# Altium integrated library TI Amplifiers and Linear Operational Amplifier General Purpose.IntLib: 1448 symbols (part 46 of 51)
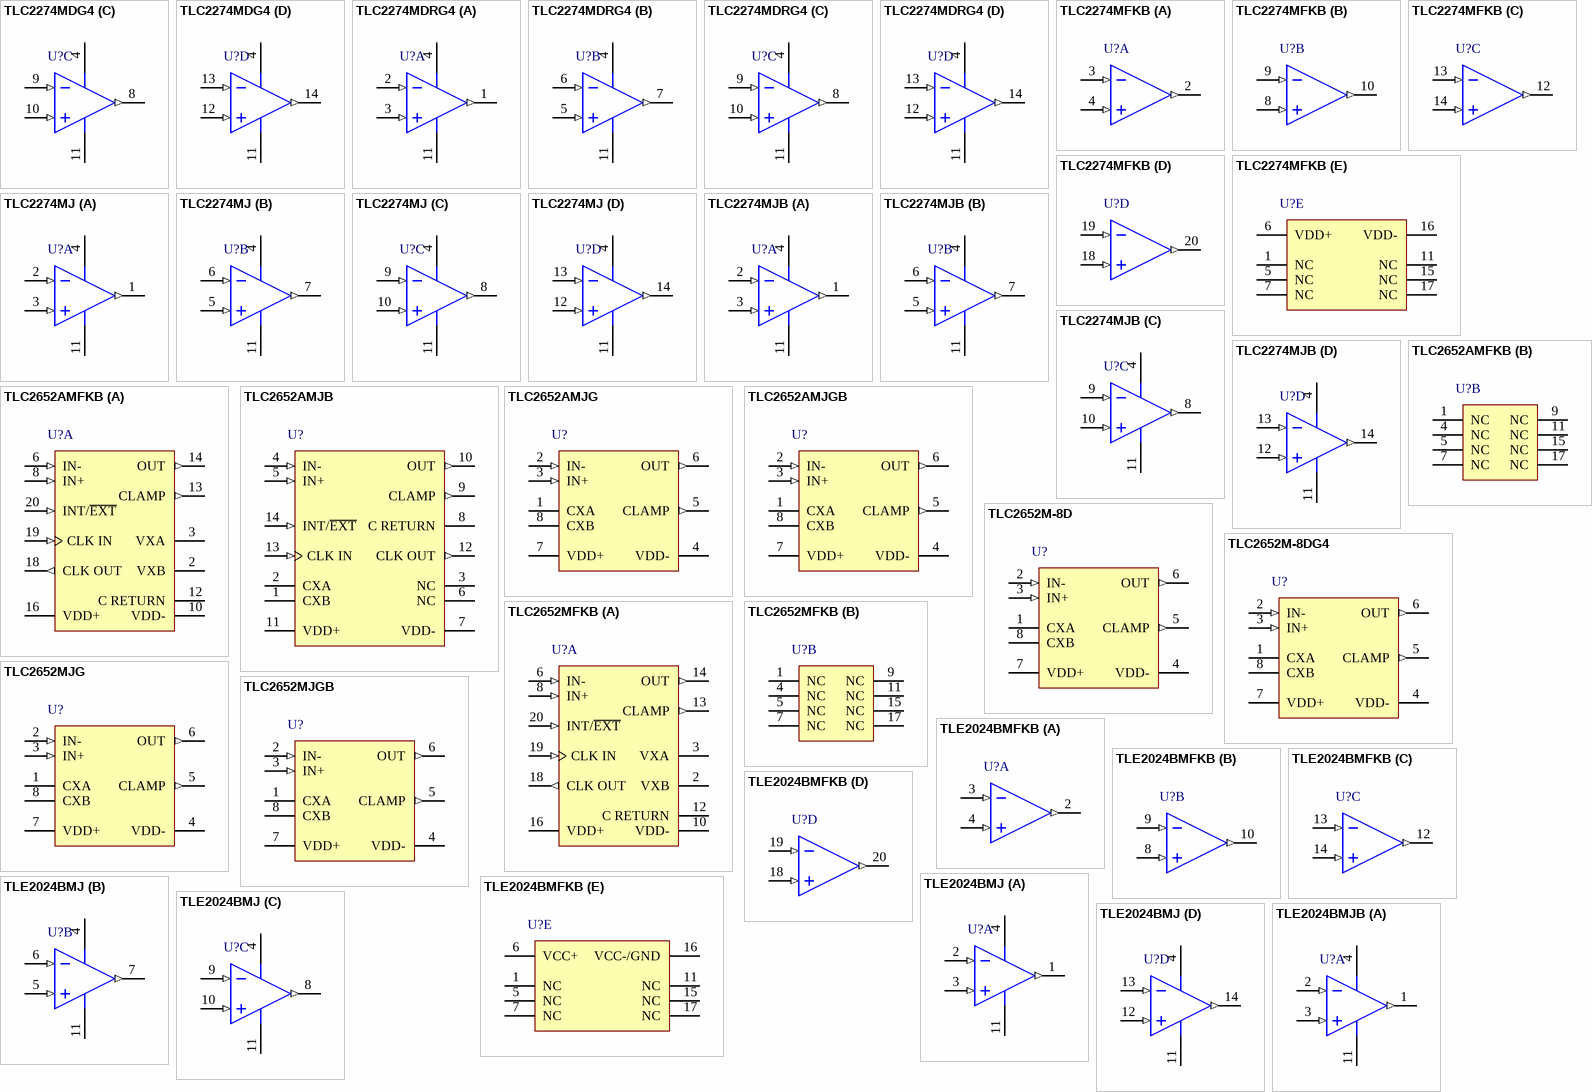
[diagram p136: symbols TLC2274MDG4 to TLE2024BMJB]

## TLC2274MJB
designator U?
Rail-To-Rail Low Noise Advanced LinCMOS(TM) Quad Operational Amplifier, 4.4 to 16 V, -55 to 125 degC, 14-pin DIP (J14); Manufacturer: Texas Instruments; PartNumber: TLC2274MJB; CMRR(Min)(dB): 70; IIB(Max)(pA): 800; Number of Channels: 4; Offset Drift(Typ)(uV/C): 2; Rating: Military; Slew Rate(Typ)(V/us): 3.6; Sub Family: General Purpose Amplifier; Total Supply Voltage(Max)(+5V is 5, +/-5V is 10): 16; Total Supply Voltage(Min)(+5V is 5, +/-5V is 10): 4.4; Vio (25C)(Max)(mV): 2.5; Vn at 1kHz(Typ)(nV/rtHz): 9; DatasheetVersion: SLOS190G; PackageVersion: 4040083/F, 03/2003; PackageReference: J14; PackageDescription: 14-Pin Ceramic, Glass In-Line, Row Spacing 7.62 mm, Pitch 2.54 mm; Mounting Technology: Through Hole; ComponentLink1Description: Manufacturer URL; ComponentLink1URL: http://www.ti.com/; ComponentLink2Description: Datasheet; ComponentLink2URL: http://www.ti.com/lit/ds/symlink/tlc2274m.pdf; ComponentLink3Description: Package Specification; ComponentLink3URL: http://www.ti.com/litv/pdf/mcer002d
footprint TI-J14 (DIP, 14-Leads, Body 19.94x6.92mm, Row Spacing 7.62 mm, Pitch 2.54mm)
pins on every part: 4 VDD+ (power), 11 VDD- (power)
part A pins: 1 OUT1 (out), 2 IN1- (in), 3 IN1+ (in)
part B pins: 5 IN2+ (in), 6 IN2- (in), 7 OUT2 (out)
part C pins: 8 OUT3 (out), 9 IN3- (in), 10 IN3+ (in)
part D pins: 12 IN4+ (in), 13 IN4- (in), 14 OUT4 (out)

## TLC2652AMFKB
designator U?
Precision Chopper-Stabilized Advanced LinCMOS(TM) Operational Amplifier, 3.8 to 16 V, -55 to 125 degC, 20-pin LCC (FK20); Manufacturer: Texas Instruments; PartNumber: TLC2652AMFKB; CMRR(Min)(dB): 120; IIB(Max)(pA): 60; Number of Channels: 1; Total Supply Voltage(Max)(+5V is 5, +/-5V is 10): 16; Total Supply Voltage(Min)(+5V is 5, +/-5V is 10): 3.8; Vio (25C)(Max)(mV): 0.003; Vn at 1kHz(Typ)(nV/rtHz): 23; DatasheetVersion: SLOS019E; PackageVersion: 4040140/D, 01/2011; PackageReference: FK20; PackageDescription: 20-Pin Ceramic, Metal Chip Carrier, Body 8.89 x 8.89 mm, Pitch 1.27 mm; Mounting Technology: Surface Mount; Code_JEDEC: MS-004; ComponentLink1Description: Manufacturer URL; ComponentLink1URL: http://www.ti.com/; ComponentLink2Description: Datasheet; ComponentLink2URL: http://www.ti.com/lit/ds/symlink/tlc2652am.pdf; ComponentLink3Description: Package Specification; ComponentLink3URL: http://www.ti.com/litv/pdf/mlcc006d
footprint TI-FK20_N (Leadless Chip Carrier, 20-Leads, Body 8.9x8.9mm, Pitch 1.27mm, IPC Medium Density)
footprint TI-FK20_L (Leadless Chip Carrier, 20-Leads, Body 8.9x8.9mm, Pitch 1.27mm, IPC High Density)
footprint TI-FK20_M (Leadless Chip Carrier, 20-Leads, Body 8.9x8.9mm, Pitch 1.27mm, IPC Low Density)
part A pins: 2 VXB (power), 3 VXA (power), 6 IN- (in), 8 IN+ (in), 10 VDD- (power), 12 C RETURN (power), 13 CLAMP (out), 14 OUT (out), 16 VDD+ (power), 18 CLK OUT (out), 19 CLK IN (in), 20 INT/~{EXT} (in)
part B pins: 1 NC, 4 NC, 5 NC, 7 NC, 9 NC, 11 NC, 15 NC, 17 NC

## TLC2652AMJB
designator U?
Precision Chopper-Stabilized Advanced LinCMOS(TM) Operational Amplifier, 3.8 to 16 V, -55 to 125 degC, 14-pin DIP (J14); Manufacturer: Texas Instruments; PartNumber: TLC2652AMJB; CMRR(Min)(dB): 120; IIB(Max)(pA): 60; Number of Channels: 1; Total Supply Voltage(Max)(+5V is 5, +/-5V is 10): 16; Total Supply Voltage(Min)(+5V is 5, +/-5V is 10): 3.8; Vio (25C)(Max)(mV): 0.003; Vn at 1kHz(Typ)(nV/rtHz): 23; DatasheetVersion: SLOS019E; PackageVersion: 4040083/F, 03/2003; PackageReference: J14; PackageDescription: 14-Pin Ceramic, Glass In-Line, Row Spacing 7.62 mm, Pitch 2.54 mm; Mounting Technology: Through Hole; ComponentLink1Description: Manufacturer URL; ComponentLink1URL: http://www.ti.com/; ComponentLink2Description: Datasheet; ComponentLink2URL: http://www.ti.com/lit/ds/symlink/tlc2652am.pdf; ComponentLink3Description: Package Specification; ComponentLink3URL: http://www.ti.com/litv/pdf/mcer002d
footprint TI-J14 (DIP, 14-Leads, Body 19.94x6.92mm, Row Spacing 7.62 mm, Pitch 2.54mm)
pins: 1 CXB, 2 CXA, 3 NC, 4 IN- (in), 5 IN+ (in), 6 NC, 7 VDD- (power), 8 C RETURN (power), 9 CLAMP (out), 10 OUT (out), 11 VDD+ (power), 12 CLK OUT (out), 13 CLK IN (in), 14 INT/~{EXT} (in)

## TLC2652AMJG
designator U?
Precision Chopper-Stabilized Advanced LinCMOS(TM) Operational Amplifier, 3.8 to 16 V, -55 to 125 degC, 8-pin DIP (JG8); Manufacturer: Texas Instruments; PartNumber: TLC2652AMJG; CMRR(Min)(dB): 120; IIB(Max)(pA): 60; Number of Channels: 1; Total Supply Voltage(Max)(+5V is 5, +/-5V is 10): 16; Total Supply Voltage(Min)(+5V is 5, +/-5V is 10): 3.8; Vio (25C)(Max)(mV): 0.003; Vn at 1kHz(Typ)(nV/rtHz): 23; DatasheetVersion: SLOS019E; PackageVersion: 4040107/C, 08/1996; PackageReference: JG8; PackageDescription: 8-Pin Ceramic, Glass In-Line, Body 9.58 x 6.665 mm, Pitch 2.54 mm; Mounting Technology: Through Hole; ComponentLink1Description: Manufacturer URL; ComponentLink1URL: http://www.ti.com/; ComponentLink2Description: Datasheet; ComponentLink2URL: http://www.ti.com/lit/ds/symlink/tlc2652am.pdf; ComponentLink3Description: Package Specification; ComponentLink3URL: http://www.ti.com/litv/pdf/mcer001a
footprint TI-JG8 (DIP, 8-Leads, Body 10.15x7.1mm, Pitch 2.54mm)
pins: 1 CXA, 2 IN- (in), 3 IN+ (in), 4 VDD- (power), 5 CLAMP (out), 6 OUT (out), 7 VDD+ (power), 8 CXB

## TLC2652AMJGB
designator U?
Precision Chopper-Stabilized Advanced LinCMOS(TM) Operational Amplifier, 3.8 to 16 V, -55 to 125 degC, 8-pin DIP (JG8); Manufacturer: Texas Instruments; PartNumber: TLC2652AMJGB; CMRR(Min)(dB): 120; IIB(Max)(pA): 60; Number of Channels: 1; Total Supply Voltage(Max)(+5V is 5, +/-5V is 10): 16; Total Supply Voltage(Min)(+5V is 5, +/-5V is 10): 3.8; Vio (25C)(Max)(mV): 0.003; Vn at 1kHz(Typ)(nV/rtHz): 23; DatasheetVersion: SLOS019E; PackageVersion: 4040107/C, 08/1996; PackageReference: JG8; PackageDescription: 8-Pin Ceramic, Glass In-Line, Body 9.58 x 6.665 mm, Pitch 2.54 mm; Mounting Technology: Through Hole; ComponentLink1Description: Manufacturer URL; ComponentLink1URL: http://www.ti.com/; ComponentLink2Description: Datasheet; ComponentLink2URL: http://www.ti.com/lit/ds/symlink/tlc2652am.pdf; ComponentLink3Description: Package Specification; ComponentLink3URL: http://www.ti.com/litv/pdf/mcer001a
footprint TI-JG8 (DIP, 8-Leads, Body 10.15x7.1mm, Pitch 2.54mm)
pins: 1 CXA, 2 IN- (in), 3 IN+ (in), 4 VDD- (power), 5 CLAMP (out), 6 OUT (out), 7 VDD+ (power), 8 CXB

## TLC2652M-8D
designator U?
Precision Chopper-Stabilized Advanced LinCMOS(TM) Operational Amplifier, 3.8 to 16 V, -55 to 125 degC, 8-pin SOIC (D8), Green (RoHS & no Sb/Br); Manufacturer: Texas Instruments; PartNumber: TLC2652M-8D; CMRR(Min)(dB): 120; IIB(Max)(pA): 60; Number of Channels: 1; Total Supply Voltage(Max)(+5V is 5, +/-5V is 10): 16; Total Supply Voltage(Min)(+5V is 5, +/-5V is 10): 3.8; Vio (25C)(Max)(mV): 0.0035; Vn at 1kHz(Typ)(nV/rtHz): 23; DatasheetVersion: SLOS019E; PackageVersion: 4040047-3/M, 06/2011; PackageReference: D8; PackageDescription: 8-Pin Plastic Small Outline, Body 4.9 x 3.9 mm, Pitch 1.27 mm; Supplier 1: Digi-Key; Supplier Part Number 1: 296-7325-5-ND; Supplier 2: Newark; Supplier Part Number 2: 76C7048; Supplier 3: Mouser; Supplier Part Number 3: 595-TLC2652M-8D; Eco-Plan: Green (RoHS & no Sb/Br); Mounting Technology: Surface Mount; Code_JEDEC: MS-012; ComponentLink1Description: Manufacturer URL; ComponentLink1URL: http://www.ti.com/; ComponentLink2Description: Datasheet; ComponentLink2URL: http://www.ti.com/lit/ds/symlink/tlc2652m.pdf; ComponentLink3Description: Package Specification; ComponentLink3URL: http://www.ti.com/litv/pdf/msoi002j
footprint TI-D8_N (SOIC, 8-Leads, Body 4.9x3.9mm, Pitch 1.27mm, IPC Medium Density)
footprint TI-D8_L (SOIC, 8-Leads, Body 4.9x3.9mm, Pitch 1.27mm, IPC High Density)
footprint TI-D8_M (SOIC, 8-Leads, Body 4.9x3.9mm, Pitch 1.27mm, IPC Low Density)
pins: 1 CXA, 2 IN- (in), 3 IN+ (in), 4 VDD- (power), 5 CLAMP (out), 6 OUT (out), 7 VDD+ (power), 8 CXB

## TLC2652M-8DG4
designator U?
Precision Chopper-Stabilized Advanced LinCMOS(TM) Operational Amplifier, 3.8 to 16 V, -55 to 125 degC, 8-pin SOIC (D8), Green (RoHS & no Sb/Br); Manufacturer: Texas Instruments; PartNumber: TLC2652M-8DG4; CMRR(Min)(dB): 120; IIB(Max)(pA): 60; Number of Channels: 1; Total Supply Voltage(Max)(+5V is 5, +/-5V is 10): 16; Total Supply Voltage(Min)(+5V is 5, +/-5V is 10): 3.8; Vio (25C)(Max)(mV): 0.0035; Vn at 1kHz(Typ)(nV/rtHz): 23; DatasheetVersion: SLOS019E; PackageVersion: 4040047-3/M, 06/2011; PackageReference: D8; PackageDescription: 8-Pin Plastic Small Outline, Body 4.9 x 3.9 mm, Pitch 1.27 mm; Supplier 1: Digi-Key; Supplier Part Number 1: TLC2652M-8DG4-ND; Supplier 2: Mouser; Supplier Part Number 2: 595-TLC2652M-8DG4; Eco-Plan: Green (RoHS & no Sb/Br); Mounting Technology: Surface Mount; Code_JEDEC: MS-012; ComponentLink1Description: Manufacturer URL; ComponentLink1URL: http://www.ti.com/; ComponentLink2Description: Datasheet; ComponentLink2URL: http://www.ti.com/lit/ds/symlink/tlc2652m.pdf; ComponentLink3Description: Package Specification; ComponentLink3URL: http://www.ti.com/litv/pdf/msoi002j
footprint TI-D8_N (SOIC, 8-Leads, Body 4.9x3.9mm, Pitch 1.27mm, IPC Medium Density)
footprint TI-D8_L (SOIC, 8-Leads, Body 4.9x3.9mm, Pitch 1.27mm, IPC High Density)
footprint TI-D8_M (SOIC, 8-Leads, Body 4.9x3.9mm, Pitch 1.27mm, IPC Low Density)
pins: 1 CXA, 2 IN- (in), 3 IN+ (in), 4 VDD- (power), 5 CLAMP (out), 6 OUT (out), 7 VDD+ (power), 8 CXB

## TLC2652MFKB
designator U?
Precision Chopper-Stabilized Advanced LinCMOS(TM) Operational Amplifier, 3.8 to 16 V, -55 to 125 degC, 20-pin LCC (FK20); Manufacturer: Texas Instruments; PartNumber: TLC2652MFKB; CMRR(Min)(dB): 120; IIB(Max)(pA): 60; Number of Channels: 1; Total Supply Voltage(Max)(+5V is 5, +/-5V is 10): 16; Total Supply Voltage(Min)(+5V is 5, +/-5V is 10): 3.8; Vio (25C)(Max)(mV): 0.0035; Vn at 1kHz(Typ)(nV/rtHz): 23; DatasheetVersion: SLOS019E; PackageVersion: 4040140/D, 01/2011; PackageReference: FK20; PackageDescription: 20-Pin Ceramic, Metal Chip Carrier, Body 8.89 x 8.89 mm, Pitch 1.27 mm; Mounting Technology: Surface Mount; Code_JEDEC: MS-004; ComponentLink1Description: Manufacturer URL; ComponentLink1URL: http://www.ti.com/; ComponentLink2Description: Datasheet; ComponentLink2URL: http://www.ti.com/lit/ds/symlink/tlc2652m.pdf; ComponentLink3Description: Package Specification; ComponentLink3URL: http://www.ti.com/litv/pdf/mlcc006d
footprint TI-FK20_N (Leadless Chip Carrier, 20-Leads, Body 8.9x8.9mm, Pitch 1.27mm, IPC Medium Density)
footprint TI-FK20_L (Leadless Chip Carrier, 20-Leads, Body 8.9x8.9mm, Pitch 1.27mm, IPC High Density)
footprint TI-FK20_M (Leadless Chip Carrier, 20-Leads, Body 8.9x8.9mm, Pitch 1.27mm, IPC Low Density)
part A pins: 2 VXB, 3 VXA, 6 IN- (in), 8 IN+ (in), 10 VDD- (power), 12 C RETURN (power), 13 CLAMP (out), 14 OUT (out), 16 VDD+ (power), 18 CLK OUT (out), 19 CLK IN (in), 20 INT/~{EXT} (in)
part B pins: 1 NC, 4 NC, 5 NC, 7 NC, 9 NC, 11 NC, 15 NC, 17 NC

## TLC2652MJG
designator U?
Precision Chopper-Stabilized Advanced LinCMOS(TM) Operational Amplifier, 3.8 to 16 V, -55 to 125 degC, 8-pin DIP (JG8); Manufacturer: Texas Instruments; PartNumber: TLC2652MJG; CMRR(Min)(dB): 120; IIB(Max)(pA): 60; Number of Channels: 1; Total Supply Voltage(Max)(+5V is 5, +/-5V is 10): 16; Total Supply Voltage(Min)(+5V is 5, +/-5V is 10): 3.8; Vio (25C)(Max)(mV): 0.0035; Vn at 1kHz(Typ)(nV/rtHz): 23; DatasheetVersion: SLOS019E; PackageVersion: 4040107/C, 08/1996; PackageReference: JG8; PackageDescription: 8-Pin Ceramic, Glass In-Line, Body 9.58 x 6.665 mm, Pitch 2.54 mm; Mounting Technology: Through Hole; ComponentLink1Description: Manufacturer URL; ComponentLink1URL: http://www.ti.com/; ComponentLink2Description: Datasheet; ComponentLink2URL: http://www.ti.com/lit/ds/symlink/tlc2652m.pdf; ComponentLink3Description: Package Specification; ComponentLink3URL: http://www.ti.com/litv/pdf/mcer001a
footprint TI-JG8 (DIP, 8-Leads, Body 10.15x7.1mm, Pitch 2.54mm)
pins: 1 CXA, 2 IN- (in), 3 IN+ (in), 4 VDD- (power), 5 CLAMP (out), 6 OUT (out), 7 VDD+ (power), 8 CXB

## TLC2652MJGB
designator U?
Precision Chopper-Stabilized Advanced LinCMOS(TM) Operational Amplifier, 3.8 to 16 V, -55 to 125 degC, 8-pin DIP (JG8); Manufacturer: Texas Instruments; PartNumber: TLC2652MJGB; CMRR(Min)(dB): 120; IIB(Max)(pA): 60; Number of Channels: 1; Total Supply Voltage(Max)(+5V is 5, +/-5V is 10): 16; Total Supply Voltage(Min)(+5V is 5, +/-5V is 10): 3.8; Vio (25C)(Max)(mV): 0.0035; Vn at 1kHz(Typ)(nV/rtHz): 23; DatasheetVersion: SLOS019E; PackageVersion: 4040107/C, 08/1996; PackageReference: JG8; PackageDescription: 8-Pin Ceramic, Glass In-Line, Body 9.58 x 6.665 mm, Pitch 2.54 mm; Mounting Technology: Through Hole; ComponentLink1Description: Manufacturer URL; ComponentLink1URL: http://www.ti.com/; ComponentLink2Description: Datasheet; ComponentLink2URL: http://www.ti.com/lit/ds/symlink/tlc2652m.pdf; ComponentLink3Description: Package Specification; ComponentLink3URL: http://www.ti.com/litv/pdf/mcer001a
footprint TI-JG8 (DIP, 8-Leads, Body 10.15x7.1mm, Pitch 2.54mm)
pins: 1 CXA, 2 IN- (in), 3 IN+ (in), 4 VDD- (power), 5 CLAMP (out), 6 OUT (out), 7 VDD+ (power), 8 CXB

## TLE2024BMFKB
designator U?
High-Speed, Low-Power, Precision Quad Operational Amplifier, -55 to 125 degC, 20-pin LCC (FK20); Manufacturer: Texas Instruments; PartNumber: TLE2024BMFKB; CMRR(Min)(dB): 85; IIB(Max)(pA): 70000; Slew Rate(Typ)(V/us): 0.5; Sub Family: General Purpose Amplifier; Vio (25C)(Max)(mV): 0.6; Vn at 1kHz(Typ)(nV/rtHz): 17; DatasheetVersion: SLOS191D; PackageVersion: 4040140/D, 01/2011; PackageReference: FK20; PackageDescription: 20-Pin Ceramic, Metal Chip Carrier, Body 8.89 x 8.89 mm, Pitch 1.27 mm; Mounting Technology: Surface Mount; Code_JEDEC: MS-004; ComponentLink1Description: Manufacturer URL; ComponentLink1URL: http://www.ti.com/; ComponentLink2Description: Datasheet; ComponentLink2URL: http://www.ti.com/lit/ds/symlink/tle2024bm.pdf; ComponentLink3Description: Package Specification; ComponentLink3URL: http://www.ti.com/litv/pdf/mlcc006d
footprint TI-FK20_N (Leadless Chip Carrier, 20-Leads, Body 8.9x8.9mm, Pitch 1.27mm, IPC Medium Density)
footprint TI-FK20_L (Leadless Chip Carrier, 20-Leads, Body 8.9x8.9mm, Pitch 1.27mm, IPC High Density)
footprint TI-FK20_M (Leadless Chip Carrier, 20-Leads, Body 8.9x8.9mm, Pitch 1.27mm, IPC Low Density)
part A pins: 2 OUT1 (out), 3 IN1- (in), 4 IN1+ (in)
part B pins: 8 IN2+ (in), 9 IN2- (in), 10 OUT2 (out)
part C pins: 12 OUT3 (out), 13 IN3- (in), 14 IN3+ (in)
part D pins: 18 IN4+ (in), 19 IN4- (in), 20 OUT4 (out)
part E pins: 1 NC, 5 NC, 6 VCC+ (power), 7 NC, 11 NC, 15 NC, 16 VCC-/GND (power), 17 NC

## TLE2024BMJ
designator U?
High-Speed, Low-Power, Precision Quad Operational Amplifier, -55 to 125 degC, 14-pin DIP (J14); Manufacturer: Texas Instruments; PartNumber: TLE2024BMJ; CMRR(Min)(dB): 85; IIB(Max)(pA): 70000; Slew Rate(Typ)(V/us): 0.5; Sub Family: General Purpose Amplifier; Vio (25C)(Max)(mV): 0.6; Vn at 1kHz(Typ)(nV/rtHz): 17; DatasheetVersion: SLOS191D; PackageVersion: 4040083/F, 03/2003; PackageReference: J14; PackageDescription: 14-Pin Ceramic, Glass In-Line, Row Spacing 7.62 mm, Pitch 2.54 mm; Mounting Technology: Through Hole; ComponentLink1Description: Manufacturer URL; ComponentLink1URL: http://www.ti.com/; ComponentLink2Description: Datasheet; ComponentLink2URL: http://www.ti.com/lit/ds/symlink/tle2024bm.pdf; ComponentLink3Description: Package Specification; ComponentLink3URL: http://www.ti.com/litv/pdf/mcer002d
footprint TI-J14 (DIP, 14-Leads, Body 19.94x6.92mm, Row Spacing 7.62 mm, Pitch 2.54mm)
pins on every part: 4 VCC+ (power), 11 VCC-/GND (power)
part A pins: 1 OUT1 (out), 2 IN1- (in), 3 IN1+ (in)
part B pins: 5 IN2+ (in), 6 IN2- (in), 7 OUT2 (out)
part C pins: 8 OUT3 (out), 9 IN3- (in), 10 IN3+ (in)
part D pins: 12 IN4+ (in), 13 IN4- (in), 14 OUT4 (out)

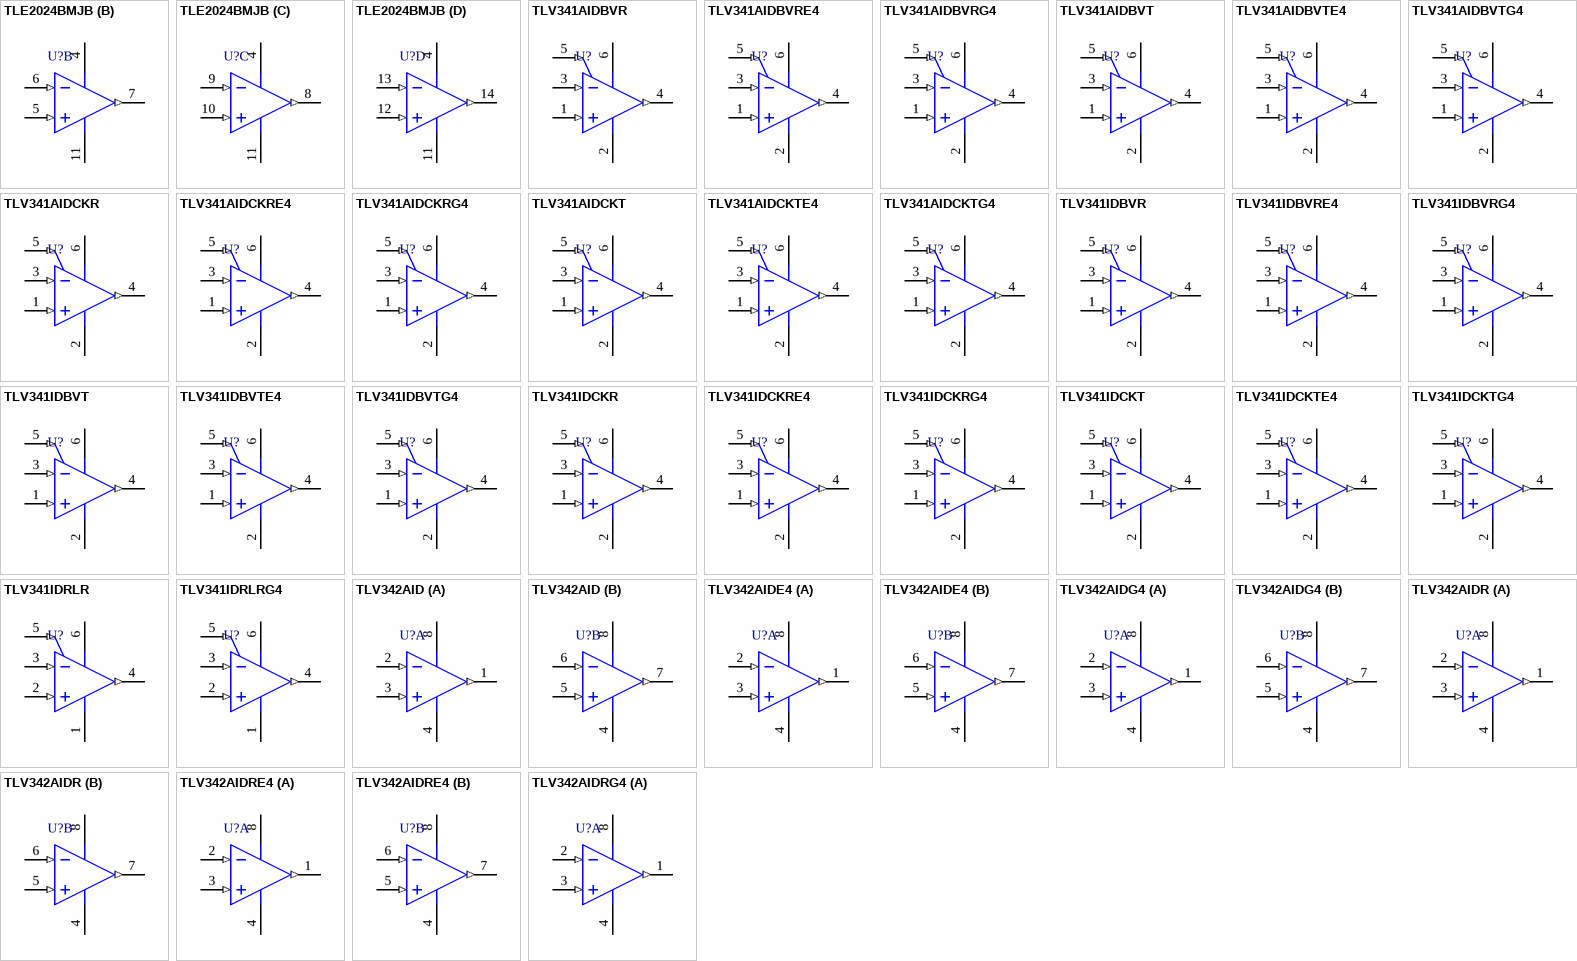
[diagram p82: symbols TLE2024BMJB to TLV342AIDRG4]

## TLE2024BMJB
designator U?
High-Speed, Low-Power, Precision Quad Operational Amplifier, -55 to 125 degC, 14-pin DIP (J14); Manufacturer: Texas Instruments; PartNumber: TLE2024BMJB; CMRR(Min)(dB): 85; IIB(Max)(pA): 70000; Slew Rate(Typ)(V/us): 0.5; Sub Family: General Purpose Amplifier; Vio (25C)(Max)(mV): 0.6; Vn at 1kHz(Typ)(nV/rtHz): 17; DatasheetVersion: SLOS191D; PackageVersion: 4040083/F, 03/2003; PackageReference: J14; PackageDescription: 14-Pin Ceramic, Glass In-Line, Row Spacing 7.62 mm, Pitch 2.54 mm; Mounting Technology: Through Hole; ComponentLink1Description: Manufacturer URL; ComponentLink1URL: http://www.ti.com/; ComponentLink2Description: Datasheet; ComponentLink2URL: http://www.ti.com/lit/ds/symlink/tle2024bm.pdf; ComponentLink3Description: Package Specification; ComponentLink3URL: http://www.ti.com/litv/pdf/mcer002d
footprint TI-J14 (DIP, 14-Leads, Body 19.94x6.92mm, Row Spacing 7.62 mm, Pitch 2.54mm)
pins on every part: 4 VCC+ (power), 11 VCC-/GND (power)
part A pins: 1 OUT1 (out), 2 IN1- (in), 3 IN1+ (in)
part B pins: 5 IN2+ (in), 6 IN2- (in), 7 OUT2 (out)
part C pins: 8 OUT3 (out), 9 IN3- (in), 10 IN3+ (in)
part D pins: 12 IN4+ (in), 13 IN4- (in), 14 OUT4 (out)

## TLV341AIDBVR
designator U?
Low-Voltage, Rail-To-Rail Output CMOS Operational Amplifier with Shutdown, 1.5 to 5.5 V, -40 to 125 degC, 6-pin SOT23 (DBV6), Green (RoHS & no Sb/Br); Manufacturer: Texas Instruments; PartNumber: TLV341AIDBVR; CMRR(Min)(dB): 50; GBW(Typ)(MHz): 2.2; IIB(Max)(pA): 3000; Iq per channel(Max)(mA): 0.15; Number of Channels: 1; Offset Drift(Typ)(uV/C): 1.9; Rating: Catalog; Slew Rate(Typ)(V/us): 0.9; Sub Family: General Purpose Amplifier, Low Power Amp (<=500uA), Low Supply Voltage Amplifier (<=2.7V); Total Supply Voltage(Max)(+5V is 5, +/-5V is 10): 5.5; Total Supply Voltage(Min)(+5V is 5, +/-5V is 10): 1.5; Vio (25C)(Max)(mV): 1.25; Vn at 1kHz(Typ)(nV/rtHz): 33; DatasheetVersion: SLVS568C; PackageVersion: 4073253-5/K, 03/2006; PackageReference: DBV6; PackageDescription: 6-Pin Plastic Small Outline, Body 1.6 x 2.9 mm, Pitch 0.95 mm; Supplier 1: Digi-Key; Supplier Part Number 1: 296-17680-2-ND; Supplier 2: Digi-Key; Supplier Part Number 2: 296-17680-1-ND; Supplier 3: Digi-Key; Supplier Part Number 3: 296-17680-6-ND; Supplier 4: Newark; Supplier Part Number 4: 73J8352; Supplier 5: Mouser; Supplier Part Number 5: 595-TLV341AIDBVR; Eco-Plan: Green (RoHS & no Sb/Br); Mounting Technology: Surface Mount; Code_JEDEC: MO-178; ComponentLink1Description: Manufacturer URL; ComponentLink1URL: http://www.ti.com/; ComponentLink2Description: Datasheet; ComponentLink2URL: http://www.ti.com/lit/ds/symlink/tlv341a.pdf; ComponentLink3Description: Package Specification; ComponentLink3URL: http://www.ti.com/litv/pdf/mpds026h
footprint TI-DBV6_N (SOT23, 6-Leads, Body 2.90x1.60mm, Pitch 0.95mm, IPC Medium Density)
footprint TI-DBV6_L (SOT23, 6-Leads, Body 2.90x1.60mm, Pitch 0.95mm, IPC High Density)
footprint TI-DBV6_M (SOT23, 6-Leads, Body 2.90x1.60mm, Pitch 0.95mm, IPC Low Density)
pins: 1 IN+ (in), 2 GND (power), 3 IN- (in), 4 OUT (out), 5 ~{SHDN} (in), 6 V+ (power)

## TLV341AIDBVRE4
designator U?
Low-Voltage, Rail-To-Rail Output CMOS Operational Amplifier with Shutdown, 1.5 to 5.5 V, -40 to 125 degC, 6-pin SOT23 (DBV6), Green (RoHS & no Sb/Br); Manufacturer: Texas Instruments; PartNumber: TLV341AIDBVRE4; CMRR(Min)(dB): 50; GBW(Typ)(MHz): 2.2; IIB(Max)(pA): 3000; Iq per channel(Max)(mA): 0.15; Number of Channels: 1; Offset Drift(Typ)(uV/C): 1.9; Rating: Catalog; Slew Rate(Typ)(V/us): 0.9; Sub Family: General Purpose Amplifier, Low Power Amp (<=500uA), Low Supply Voltage Amplifier (<=2.7V); Total Supply Voltage(Max)(+5V is 5, +/-5V is 10): 5.5; Total Supply Voltage(Min)(+5V is 5, +/-5V is 10): 1.5; Vio (25C)(Max)(mV): 1.25; Vn at 1kHz(Typ)(nV/rtHz): 33; DatasheetVersion: SLVS568C; PackageVersion: 4073253-5/K, 03/2006; PackageReference: DBV6; PackageDescription: 6-Pin Plastic Small Outline, Body 1.6 x 2.9 mm, Pitch 0.95 mm; Supplier 1: Digi-Key; Supplier Part Number 1: TLV341AIDBVRE4-ND; Supplier 2: Mouser; Supplier Part Number 2: 595-TLV341AIDBVRE4; Eco-Plan: Green (RoHS & no Sb/Br); Mounting Technology: Surface Mount; Code_JEDEC: MO-178; ComponentLink1Description: Manufacturer URL; ComponentLink1URL: http://www.ti.com/; ComponentLink2Description: Datasheet; ComponentLink2URL: http://www.ti.com/lit/ds/symlink/tlv341a.pdf; ComponentLink3Description: Package Specification; ComponentLink3URL: http://www.ti.com/litv/pdf/mpds026h
footprint TI-DBV6_N (SOT23, 6-Leads, Body 2.90x1.60mm, Pitch 0.95mm, IPC Medium Density)
footprint TI-DBV6_L (SOT23, 6-Leads, Body 2.90x1.60mm, Pitch 0.95mm, IPC High Density)
footprint TI-DBV6_M (SOT23, 6-Leads, Body 2.90x1.60mm, Pitch 0.95mm, IPC Low Density)
pins: 1 IN+ (in), 2 GND (power), 3 IN- (in), 4 OUT (out), 5 ~{SHDN} (in), 6 V+ (power)

## TLV341AIDBVRG4
designator U?
Low-Voltage, Rail-To-Rail Output CMOS Operational Amplifier with Shutdown, 1.5 to 5.5 V, -40 to 125 degC, 6-pin SOT23 (DBV6), Green (RoHS & no Sb/Br); Manufacturer: Texas Instruments; PartNumber: TLV341AIDBVRG4; CMRR(Min)(dB): 50; GBW(Typ)(MHz): 2.2; IIB(Max)(pA): 3000; Iq per channel(Max)(mA): 0.15; Number of Channels: 1; Offset Drift(Typ)(uV/C): 1.9; Rating: Catalog; Slew Rate(Typ)(V/us): 0.9; Sub Family: General Purpose Amplifier, Low Power Amp (<=500uA), Low Supply Voltage Amplifier (<=2.7V); Total Supply Voltage(Max)(+5V is 5, +/-5V is 10): 5.5; Total Supply Voltage(Min)(+5V is 5, +/-5V is 10): 1.5; Vio (25C)(Max)(mV): 1.25; Vn at 1kHz(Typ)(nV/rtHz): 33; DatasheetVersion: SLVS568C; PackageVersion: 4073253-5/K, 03/2006; PackageReference: DBV6; PackageDescription: 6-Pin Plastic Small Outline, Body 1.6 x 2.9 mm, Pitch 0.95 mm; Supplier 1: Digi-Key; Supplier Part Number 1: TLV341AIDBVRG4-ND; Supplier 2: Mouser; Supplier Part Number 2: 595-TLV341AIDBVRG4; Eco-Plan: Green (RoHS & no Sb/Br); Mounting Technology: Surface Mount; Code_JEDEC: MO-178; ComponentLink1Description: Manufacturer URL; ComponentLink1URL: http://www.ti.com/; ComponentLink2Description: Datasheet; ComponentLink2URL: http://www.ti.com/lit/ds/symlink/tlv341a.pdf; ComponentLink3Description: Package Specification; ComponentLink3URL: http://www.ti.com/litv/pdf/mpds026h
footprint TI-DBV6_N (SOT23, 6-Leads, Body 2.90x1.60mm, Pitch 0.95mm, IPC Medium Density)
footprint TI-DBV6_L (SOT23, 6-Leads, Body 2.90x1.60mm, Pitch 0.95mm, IPC High Density)
footprint TI-DBV6_M (SOT23, 6-Leads, Body 2.90x1.60mm, Pitch 0.95mm, IPC Low Density)
pins: 1 IN+ (in), 2 GND (power), 3 IN- (in), 4 OUT (out), 5 ~{SHDN} (in), 6 V+ (power)

## TLV341AIDBVT
designator U?
Low-Voltage, Rail-To-Rail Output CMOS Operational Amplifier with Shutdown, 1.5 to 5.5 V, -40 to 125 degC, 6-pin SOT23 (DBV6), Green (RoHS & no Sb/Br); Manufacturer: Texas Instruments; PartNumber: TLV341AIDBVT; CMRR(Min)(dB): 50; GBW(Typ)(MHz): 2.2; IIB(Max)(pA): 3000; Iq per channel(Max)(mA): 0.15; Number of Channels: 1; Offset Drift(Typ)(uV/C): 1.9; Rating: Catalog; Slew Rate(Typ)(V/us): 0.9; Sub Family: General Purpose Amplifier, Low Power Amp (<=500uA), Low Supply Voltage Amplifier (<=2.7V); Total Supply Voltage(Max)(+5V is 5, +/-5V is 10): 5.5; Total Supply Voltage(Min)(+5V is 5, +/-5V is 10): 1.5; Vio (25C)(Max)(mV): 1.25; Vn at 1kHz(Typ)(nV/rtHz): 33; DatasheetVersion: SLVS568C; PackageVersion: 4073253-5/K, 03/2006; PackageReference: DBV6; PackageDescription: 6-Pin Plastic Small Outline, Body 1.6 x 2.9 mm, Pitch 0.95 mm; Supplier 1: Digi-Key; Supplier Part Number 1: 296-32392-2-ND; Supplier 2: Digi-Key; Supplier Part Number 2: 296-32392-1-ND; Supplier 3: Digi-Key; Supplier Part Number 3: 296-32392-6-ND; Supplier 4: Newark; Supplier Part Number 4: 73J8353; Supplier 5: Mouser; Supplier Part Number 5: 595-TLV341AIDBVT; Eco-Plan: Green (RoHS & no Sb/Br); Mounting Technology: Surface Mount; Code_JEDEC: MO-178; ComponentLink1Description: Manufacturer URL; ComponentLink1URL: http://www.ti.com/; ComponentLink2Description: Datasheet; ComponentLink2URL: http://www.ti.com/lit/ds/symlink/tlv341a.pdf; ComponentLink3Description: Package Specification; ComponentLink3URL: http://www.ti.com/litv/pdf/mpds026h
footprint TI-DBV6_N (SOT23, 6-Leads, Body 2.90x1.60mm, Pitch 0.95mm, IPC Medium Density)
footprint TI-DBV6_L (SOT23, 6-Leads, Body 2.90x1.60mm, Pitch 0.95mm, IPC High Density)
footprint TI-DBV6_M (SOT23, 6-Leads, Body 2.90x1.60mm, Pitch 0.95mm, IPC Low Density)
pins: 1 IN+ (in), 2 GND (power), 3 IN- (in), 4 OUT (out), 5 ~{SHDN} (in), 6 V+ (power)

## TLV341AIDBVTE4
designator U?
Low-Voltage, Rail-To-Rail Output CMOS Operational Amplifier with Shutdown, 1.5 to 5.5 V, -40 to 125 degC, 6-pin SOT23 (DBV6), Green (RoHS & no Sb/Br); Manufacturer: Texas Instruments; PartNumber: TLV341AIDBVTE4; CMRR(Min)(dB): 50; GBW(Typ)(MHz): 2.2; IIB(Max)(pA): 3000; Iq per channel(Max)(mA): 0.15; Number of Channels: 1; Offset Drift(Typ)(uV/C): 1.9; Rating: Catalog; Slew Rate(Typ)(V/us): 0.9; Sub Family: General Purpose Amplifier, Low Power Amp (<=500uA), Low Supply Voltage Amplifier (<=2.7V); Total Supply Voltage(Max)(+5V is 5, +/-5V is 10): 5.5; Total Supply Voltage(Min)(+5V is 5, +/-5V is 10): 1.5; Vio (25C)(Max)(mV): 1.25; Vn at 1kHz(Typ)(nV/rtHz): 33; DatasheetVersion: SLVS568C; PackageVersion: 4073253-5/K, 03/2006; PackageReference: DBV6; PackageDescription: 6-Pin Plastic Small Outline, Body 1.6 x 2.9 mm, Pitch 0.95 mm; Supplier 1: Digi-Key; Supplier Part Number 1: TLV341AIDBVTE4-ND; Supplier 2: Mouser; Supplier Part Number 2: 595-TLV341AIDBVTE4; Eco-Plan: Green (RoHS & no Sb/Br); Mounting Technology: Surface Mount; Code_JEDEC: MO-178; ComponentLink1Description: Manufacturer URL; ComponentLink1URL: http://www.ti.com/; ComponentLink2Description: Datasheet; ComponentLink2URL: http://www.ti.com/lit/ds/symlink/tlv341a.pdf; ComponentLink3Description: Package Specification; ComponentLink3URL: http://www.ti.com/litv/pdf/mpds026h
footprint TI-DBV6_N (SOT23, 6-Leads, Body 2.90x1.60mm, Pitch 0.95mm, IPC Medium Density)
footprint TI-DBV6_L (SOT23, 6-Leads, Body 2.90x1.60mm, Pitch 0.95mm, IPC High Density)
footprint TI-DBV6_M (SOT23, 6-Leads, Body 2.90x1.60mm, Pitch 0.95mm, IPC Low Density)
pins: 1 IN+ (in), 2 GND (power), 3 IN- (in), 4 OUT (out), 5 ~{SHDN} (in), 6 V+ (power)

## TLV341AIDBVTG4
designator U?
Low-Voltage, Rail-To-Rail Output CMOS Operational Amplifier with Shutdown, 1.5 to 5.5 V, -40 to 125 degC, 6-pin SOT23 (DBV6), Green (RoHS & no Sb/Br); Manufacturer: Texas Instruments; PartNumber: TLV341AIDBVTG4; CMRR(Min)(dB): 50; GBW(Typ)(MHz): 2.2; IIB(Max)(pA): 3000; Iq per channel(Max)(mA): 0.15; Number of Channels: 1; Offset Drift(Typ)(uV/C): 1.9; Rating: Catalog; Slew Rate(Typ)(V/us): 0.9; Sub Family: General Purpose Amplifier, Low Power Amp (<=500uA), Low Supply Voltage Amplifier (<=2.7V); Total Supply Voltage(Max)(+5V is 5, +/-5V is 10): 5.5; Total Supply Voltage(Min)(+5V is 5, +/-5V is 10): 1.5; Vio (25C)(Max)(mV): 1.25; Vn at 1kHz(Typ)(nV/rtHz): 33; DatasheetVersion: SLVS568C; PackageVersion: 4073253-5/K, 03/2006; PackageReference: DBV6; PackageDescription: 6-Pin Plastic Small Outline, Body 1.6 x 2.9 mm, Pitch 0.95 mm; Supplier 1: Digi-Key; Supplier Part Number 1: TLV341AIDBVTG4-ND; Supplier 2: Mouser; Supplier Part Number 2: 595-TLV341AIDBVTG4; Eco-Plan: Green (RoHS & no Sb/Br); Mounting Technology: Surface Mount; Code_JEDEC: MO-178; ComponentLink1Description: Manufacturer URL; ComponentLink1URL: http://www.ti.com/; ComponentLink2Description: Datasheet; ComponentLink2URL: http://www.ti.com/lit/ds/symlink/tlv341a.pdf; ComponentLink3Description: Package Specification; ComponentLink3URL: http://www.ti.com/litv/pdf/mpds026h
footprint TI-DBV6_N (SOT23, 6-Leads, Body 2.90x1.60mm, Pitch 0.95mm, IPC Medium Density)
footprint TI-DBV6_L (SOT23, 6-Leads, Body 2.90x1.60mm, Pitch 0.95mm, IPC High Density)
footprint TI-DBV6_M (SOT23, 6-Leads, Body 2.90x1.60mm, Pitch 0.95mm, IPC Low Density)
pins: 1 IN+ (in), 2 GND (power), 3 IN- (in), 4 OUT (out), 5 ~{SHDN} (in), 6 V+ (power)

## TLV341AIDCKR
designator U?
Low-Voltage, Rail-To-Rail Output CMOS Operational Amplifier with Shutdown, 1.5 to 5.5 V, -40 to 125 degC, 6-pin SOT23 (DCK6), Green (RoHS & no Sb/Br); Manufacturer: Texas Instruments; PartNumber: TLV341AIDCKR; CMRR(Min)(dB): 50; GBW(Typ)(MHz): 2.2; IIB(Max)(pA): 3000; Iq per channel(Max)(mA): 0.15; Number of Channels: 1; Offset Drift(Typ)(uV/C): 1.9; Rating: Catalog; Slew Rate(Typ)(V/us): 0.9; Sub Family: General Purpose Amplifier, Low Power Amp (<=500uA), Low Supply Voltage Amplifier (<=2.7V); Total Supply Voltage(Max)(+5V is 5, +/-5V is 10): 5.5; Total Supply Voltage(Min)(+5V is 5, +/-5V is 10): 1.5; Vio (25C)(Max)(mV): 1.25; Vn at 1kHz(Typ)(nV/rtHz): 33; DatasheetVersion: SLVS568C; PackageVersion: 4093553-4/G, 01/2007; PackageReference: DCK6; PackageDescription: 6-Pin Plastic Small Outline, Body 2 x 1.25 mm, Pitch 0.65 mm; Supplier 1: Digi-Key; Supplier Part Number 1: 296-17681-2-ND; Supplier 2: Digi-Key; Supplier Part Number 2: 296-17681-1-ND; Supplier 3: Digi-Key; Supplier Part Number 3: 296-17681-6-ND; Supplier 4: Newark; Supplier Part Number 4: 73J8354; Supplier 5: Mouser; Supplier Part Number 5: 595-TLV341AIDCKR; Eco-Plan: Green (RoHS & no Sb/Br); Mounting Technology: Surface Mount; Code_JEDEC: MO-203; ComponentLink1Description: Manufacturer URL; ComponentLink1URL: http://www.ti.com/; ComponentLink2Description: Datasheet; ComponentLink2URL: http://www.ti.com/lit/ds/symlink/tlv341a.pdf; ComponentLink3Description: Package Specification; ComponentLink3URL: http://www.ti.com/litv/pdf/mpds114c
footprint TI-DCK6_V (SOT23, 6-Leads, Body 2x1.25mm, Pitch 0.65mm)
pins: 1 IN+ (in), 2 GND (power), 3 IN- (in), 4 OUT (out), 5 ~{SHDN} (in), 6 V+ (power)

## TLV341AIDCKRE4
designator U?
Low-Voltage, Rail-To-Rail Output CMOS Operational Amplifier with Shutdown, 1.5 to 5.5 V, -40 to 125 degC, 6-pin SOT23 (DCK6), Green (RoHS & no Sb/Br); Manufacturer: Texas Instruments; PartNumber: TLV341AIDCKRE4; CMRR(Min)(dB): 50; GBW(Typ)(MHz): 2.2; IIB(Max)(pA): 3000; Iq per channel(Max)(mA): 0.15; Number of Channels: 1; Offset Drift(Typ)(uV/C): 1.9; Rating: Catalog; Slew Rate(Typ)(V/us): 0.9; Sub Family: General Purpose Amplifier, Low Power Amp (<=500uA), Low Supply Voltage Amplifier (<=2.7V); Total Supply Voltage(Max)(+5V is 5, +/-5V is 10): 5.5; Total Supply Voltage(Min)(+5V is 5, +/-5V is 10): 1.5; Vio (25C)(Max)(mV): 1.25; Vn at 1kHz(Typ)(nV/rtHz): 33; DatasheetVersion: SLVS568C; PackageVersion: 4093553-4/G, 01/2007; PackageReference: DCK6; PackageDescription: 6-Pin Plastic Small Outline, Body 2 x 1.25 mm, Pitch 0.65 mm; Supplier 1: Digi-Key; Supplier Part Number 1: TLV341AIDCKRE4-ND; Supplier 2: Mouser; Supplier Part Number 2: 595-TLV341AIDCKRE4; Eco-Plan: Green (RoHS & no Sb/Br); Mounting Technology: Surface Mount; Code_JEDEC: MO-203; ComponentLink1Description: Manufacturer URL; ComponentLink1URL: http://www.ti.com/; ComponentLink2Description: Datasheet; ComponentLink2URL: http://www.ti.com/lit/ds/symlink/tlv341a.pdf; ComponentLink3Description: Package Specification; ComponentLink3URL: http://www.ti.com/litv/pdf/mpds114c
footprint TI-DCK6_V (SOT23, 6-Leads, Body 2x1.25mm, Pitch 0.65mm)
pins: 1 IN+ (in), 2 GND (power), 3 IN- (in), 4 OUT (out), 5 ~{SHDN} (in), 6 V+ (power)

## TLV341AIDCKRG4
designator U?
Low-Voltage, Rail-To-Rail Output CMOS Operational Amplifier with Shutdown, 1.5 to 5.5 V, -40 to 125 degC, 6-pin SOT23 (DCK6), Green (RoHS & no Sb/Br); Manufacturer: Texas Instruments; PartNumber: TLV341AIDCKRG4; CMRR(Min)(dB): 50; GBW(Typ)(MHz): 2.2; IIB(Max)(pA): 3000; Iq per channel(Max)(mA): 0.15; Number of Channels: 1; Offset Drift(Typ)(uV/C): 1.9; Rating: Catalog; Slew Rate(Typ)(V/us): 0.9; Sub Family: General Purpose Amplifier, Low Power Amp (<=500uA), Low Supply Voltage Amplifier (<=2.7V); Total Supply Voltage(Max)(+5V is 5, +/-5V is 10): 5.5; Total Supply Voltage(Min)(+5V is 5, +/-5V is 10): 1.5; Vio (25C)(Max)(mV): 1.25; Vn at 1kHz(Typ)(nV/rtHz): 33; DatasheetVersion: SLVS568C; PackageVersion: 4093553-4/G, 01/2007; PackageReference: DCK6; PackageDescription: 6-Pin Plastic Small Outline, Body 2 x 1.25 mm, Pitch 0.65 mm; Supplier 1: Digi-Key; Supplier Part Number 1: TLV341AIDCKRG4-ND; Supplier 2: Mouser; Supplier Part Number 2: 595-TLV341AIDCKRG4; Eco-Plan: Green (RoHS & no Sb/Br); Mounting Technology: Surface Mount; Code_JEDEC: MO-203; ComponentLink1Description: Manufacturer URL; ComponentLink1URL: http://www.ti.com/; ComponentLink2Description: Datasheet; ComponentLink2URL: http://www.ti.com/lit/ds/symlink/tlv341a.pdf; ComponentLink3Description: Package Specification; ComponentLink3URL: http://www.ti.com/litv/pdf/mpds114c
footprint TI-DCK6_V (SOT23, 6-Leads, Body 2x1.25mm, Pitch 0.65mm)
pins: 1 IN+ (in), 2 GND (power), 3 IN- (in), 4 OUT (out), 5 ~{SHDN} (in), 6 V+ (power)

## TLV341AIDCKT
designator U?
Low-Voltage, Rail-To-Rail Output CMOS Operational Amplifier with Shutdown, 1.5 to 5.5 V, -40 to 125 degC, 6-pin SOT23 (DCK6), Green (RoHS & no Sb/Br); Manufacturer: Texas Instruments; PartNumber: TLV341AIDCKT; CMRR(Min)(dB): 50; GBW(Typ)(MHz): 2.2; IIB(Max)(pA): 3000; Iq per channel(Max)(mA): 0.15; Number of Channels: 1; Offset Drift(Typ)(uV/C): 1.9; Rating: Catalog; Slew Rate(Typ)(V/us): 0.9; Sub Family: General Purpose Amplifier, Low Power Amp (<=500uA), Low Supply Voltage Amplifier (<=2.7V); Total Supply Voltage(Max)(+5V is 5, +/-5V is 10): 5.5; Total Supply Voltage(Min)(+5V is 5, +/-5V is 10): 1.5; Vio (25C)(Max)(mV): 1.25; Vn at 1kHz(Typ)(nV/rtHz): 33; DatasheetVersion: SLVS568C; PackageVersion: 4093553-4/G, 01/2007; PackageReference: DCK6; PackageDescription: 6-Pin Plastic Small Outline, Body 2 x 1.25 mm, Pitch 0.65 mm; Supplier 1: Digi-Key; Supplier Part Number 1: TLV341AIDCKT-ND; Supplier 2: Mouser; Supplier Part Number 2: 595-TLV341AIDCKT; Eco-Plan: Green (RoHS & no Sb/Br); Mounting Technology: Surface Mount; Code_JEDEC: MO-203; ComponentLink1Description: Manufacturer URL; ComponentLink1URL: http://www.ti.com/; ComponentLink2Description: Datasheet; ComponentLink2URL: http://www.ti.com/lit/ds/symlink/tlv341a.pdf; ComponentLink3Description: Package Specification; ComponentLink3URL: http://www.ti.com/litv/pdf/mpds114c
footprint TI-DCK6_V (SOT23, 6-Leads, Body 2x1.25mm, Pitch 0.65mm)
pins: 1 IN+ (in), 2 GND (power), 3 IN- (in), 4 OUT (out), 5 ~{SHDN} (in), 6 V+ (power)

## TLV341AIDCKTE4
designator U?
Low-Voltage, Rail-To-Rail Output CMOS Operational Amplifier with Shutdown, 1.5 to 5.5 V, -40 to 125 degC, 6-pin SOT23 (DCK6), Green (RoHS & no Sb/Br); Manufacturer: Texas Instruments; PartNumber: TLV341AIDCKTE4; CMRR(Min)(dB): 50; GBW(Typ)(MHz): 2.2; IIB(Max)(pA): 3000; Iq per channel(Max)(mA): 0.15; Number of Channels: 1; Offset Drift(Typ)(uV/C): 1.9; Rating: Catalog; Slew Rate(Typ)(V/us): 0.9; Sub Family: General Purpose Amplifier, Low Power Amp (<=500uA), Low Supply Voltage Amplifier (<=2.7V); Total Supply Voltage(Max)(+5V is 5, +/-5V is 10): 5.5; Total Supply Voltage(Min)(+5V is 5, +/-5V is 10): 1.5; Vio (25C)(Max)(mV): 1.25; Vn at 1kHz(Typ)(nV/rtHz): 33; DatasheetVersion: SLVS568C; PackageVersion: 4093553-4/G, 01/2007; PackageReference: DCK6; PackageDescription: 6-Pin Plastic Small Outline, Body 2 x 1.25 mm, Pitch 0.65 mm; Supplier 1: Digi-Key; Supplier Part Number 1: TLV341AIDCKTE4-ND; Supplier 2: Mouser; Supplier Part Number 2: 595-TLV341AIDCKTE4; Eco-Plan: Green (RoHS & no Sb/Br); Mounting Technology: Surface Mount; Code_JEDEC: MO-203; ComponentLink1Description: Manufacturer URL; ComponentLink1URL: http://www.ti.com/; ComponentLink2Description: Datasheet; ComponentLink2URL: http://www.ti.com/lit/ds/symlink/tlv341a.pdf; ComponentLink3Description: Package Specification; ComponentLink3URL: http://www.ti.com/litv/pdf/mpds114c
footprint TI-DCK6_V (SOT23, 6-Leads, Body 2x1.25mm, Pitch 0.65mm)
pins: 1 IN+ (in), 2 GND (power), 3 IN- (in), 4 OUT (out), 5 ~{SHDN} (in), 6 V+ (power)

## TLV341AIDCKTG4
designator U?
Low-Voltage, Rail-To-Rail Output CMOS Operational Amplifier with Shutdown, 1.5 to 5.5 V, -40 to 125 degC, 6-pin SOT23 (DCK6), Green (RoHS & no Sb/Br); Manufacturer: Texas Instruments; PartNumber: TLV341AIDCKTG4; CMRR(Min)(dB): 50; GBW(Typ)(MHz): 2.2; IIB(Max)(pA): 3000; Iq per channel(Max)(mA): 0.15; Number of Channels: 1; Offset Drift(Typ)(uV/C): 1.9; Rating: Catalog; Slew Rate(Typ)(V/us): 0.9; Sub Family: General Purpose Amplifier, Low Power Amp (<=500uA), Low Supply Voltage Amplifier (<=2.7V); Total Supply Voltage(Max)(+5V is 5, +/-5V is 10): 5.5; Total Supply Voltage(Min)(+5V is 5, +/-5V is 10): 1.5; Vio (25C)(Max)(mV): 1.25; Vn at 1kHz(Typ)(nV/rtHz): 33; DatasheetVersion: SLVS568C; PackageVersion: 4093553-4/G, 01/2007; PackageReference: DCK6; PackageDescription: 6-Pin Plastic Small Outline, Body 2 x 1.25 mm, Pitch 0.65 mm; Supplier 1: Digi-Key; Supplier Part Number 1: TLV341AIDCKTG4-ND; Supplier 2: Mouser; Supplier Part Number 2: 595-TLV341AIDCKTG4; Eco-Plan: Green (RoHS & no Sb/Br); Mounting Technology: Surface Mount; Code_JEDEC: MO-203; ComponentLink1Description: Manufacturer URL; ComponentLink1URL: http://www.ti.com/; ComponentLink2Description: Datasheet; ComponentLink2URL: http://www.ti.com/lit/ds/symlink/tlv341a.pdf; ComponentLink3Description: Package Specification; ComponentLink3URL: http://www.ti.com/litv/pdf/mpds114c
footprint TI-DCK6_V (SOT23, 6-Leads, Body 2x1.25mm, Pitch 0.65mm)
pins: 1 IN+ (in), 2 GND (power), 3 IN- (in), 4 OUT (out), 5 ~{SHDN} (in), 6 V+ (power)

## TLV341IDBVR
designator U?
Low-Voltage, Rail-To-Rail Output CMOS Operational Amplifier with Shutdown, 1.5 to 5.5 V, -40 to 125 degC, 6-pin SOT23 (DBV6), Green (RoHS & no Sb/Br); Manufacturer: Texas Instruments; PartNumber: TLV341IDBVR; CMRR(Min)(dB): 50; GBW(Typ)(MHz): 2.2; IIB(Max)(pA): 3000; Iq per channel(Max)(mA): 0.15; Number of Channels: 1; Offset Drift(Typ)(uV/C): 1.9; Rating: Catalog; Slew Rate(Typ)(V/us): 0.9; Sub Family: General Purpose Amplifier, Low Power Amp (<=500uA), Low Supply Voltage Amplifier (<=2.7V); Total Supply Voltage(Max)(+5V is 5, +/-5V is 10): 5.5; Total Supply Voltage(Min)(+5V is 5, +/-5V is 10): 1.5; Vio (25C)(Max)(mV): 4; Vn at 1kHz(Typ)(nV/rtHz): 33; DatasheetVersion: SLVS568C; PackageVersion: 4073253-5/K, 03/2006; PackageReference: DBV6; PackageDescription: 6-Pin Plastic Small Outline, Body 1.6 x 2.9 mm, Pitch 0.95 mm; Supplier 1: Digi-Key; Supplier Part Number 1: 296-17682-2-ND; Supplier 2: Digi-Key; Supplier Part Number 2: 296-17682-1-ND; Supplier 3: Digi-Key; Supplier Part Number 3: 296-17682-6-ND; Supplier 4: Newark; Supplier Part Number 4: 73J8356; Supplier 5: Mouser; Supplier Part Number 5: 595-TLV341IDBVR; Eco-Plan: Green (RoHS & no Sb/Br); Mounting Technology: Surface Mount; Code_JEDEC: MO-178; ComponentLink1Description: Manufacturer URL; ComponentLink1URL: http://www.ti.com/; ComponentLink2Description: Datasheet; ComponentLink2URL: http://www.ti.com/lit/ds/symlink/tlv341.pdf; ComponentLink3Description: Package Specification; ComponentLink3URL: http://www.ti.com/litv/pdf/mpds026h
footprint TI-DBV6_N (SOT23, 6-Leads, Body 2.90x1.60mm, Pitch 0.95mm, IPC Medium Density)
footprint TI-DBV6_L (SOT23, 6-Leads, Body 2.90x1.60mm, Pitch 0.95mm, IPC High Density)
footprint TI-DBV6_M (SOT23, 6-Leads, Body 2.90x1.60mm, Pitch 0.95mm, IPC Low Density)
pins: 1 IN+ (in), 2 GND (power), 3 IN- (in), 4 OUT (out), 5 ~{SHDN} (in), 6 V+ (power)

## TLV341IDBVRE4
designator U?
Low-Voltage, Rail-To-Rail Output CMOS Operational Amplifier with Shutdown, 1.5 to 5.5 V, -40 to 125 degC, 6-pin SOT23 (DBV6), Green (RoHS & no Sb/Br); Manufacturer: Texas Instruments; PartNumber: TLV341IDBVRE4; CMRR(Min)(dB): 50; GBW(Typ)(MHz): 2.2; IIB(Max)(pA): 3000; Iq per channel(Max)(mA): 0.15; Number of Channels: 1; Offset Drift(Typ)(uV/C): 1.9; Rating: Catalog; Slew Rate(Typ)(V/us): 0.9; Sub Family: General Purpose Amplifier, Low Power Amp (<=500uA), Low Supply Voltage Amplifier (<=2.7V); Total Supply Voltage(Max)(+5V is 5, +/-5V is 10): 5.5; Total Supply Voltage(Min)(+5V is 5, +/-5V is 10): 1.5; Vio (25C)(Max)(mV): 4; Vn at 1kHz(Typ)(nV/rtHz): 33; DatasheetVersion: SLVS568C; PackageVersion: 4073253-5/K, 03/2006; PackageReference: DBV6; PackageDescription: 6-Pin Plastic Small Outline, Body 1.6 x 2.9 mm, Pitch 0.95 mm; Supplier 1: Digi-Key; Supplier Part Number 1: TLV341IDBVRE4-ND; Supplier 2: Newark; Supplier Part Number 2: 37K4246; Supplier 3: Mouser; Supplier Part Number 3: 595-TLV341IDBVRE4; Eco-Plan: Green (RoHS & no Sb/Br); Mounting Technology: Surface Mount; Code_JEDEC: MO-178; ComponentLink1Description: Manufacturer URL; ComponentLink1URL: http://www.ti.com/; ComponentLink2Description: Datasheet; ComponentLink2URL: http://www.ti.com/lit/ds/symlink/tlv341.pdf; ComponentLink3Description: Package Specification; ComponentLink3URL: http://www.ti.com/litv/pdf/mpds026h
footprint TI-DBV6_N (SOT23, 6-Leads, Body 2.90x1.60mm, Pitch 0.95mm, IPC Medium Density)
footprint TI-DBV6_L (SOT23, 6-Leads, Body 2.90x1.60mm, Pitch 0.95mm, IPC High Density)
footprint TI-DBV6_M (SOT23, 6-Leads, Body 2.90x1.60mm, Pitch 0.95mm, IPC Low Density)
pins: 1 IN+ (in), 2 GND (power), 3 IN- (in), 4 OUT (out), 5 ~{SHDN} (in), 6 V+ (power)

## TLV341IDBVRG4
designator U?
Low-Voltage, Rail-To-Rail Output CMOS Operational Amplifier with Shutdown, 1.5 to 5.5 V, -40 to 125 degC, 6-pin SOT23 (DBV6), Green (RoHS & no Sb/Br); Manufacturer: Texas Instruments; PartNumber: TLV341IDBVRG4; CMRR(Min)(dB): 50; GBW(Typ)(MHz): 2.2; IIB(Max)(pA): 3000; Iq per channel(Max)(mA): 0.15; Number of Channels: 1; Offset Drift(Typ)(uV/C): 1.9; Rating: Catalog; Slew Rate(Typ)(V/us): 0.9; Sub Family: General Purpose Amplifier, Low Power Amp (<=500uA), Low Supply Voltage Amplifier (<=2.7V); Total Supply Voltage(Max)(+5V is 5, +/-5V is 10): 5.5; Total Supply Voltage(Min)(+5V is 5, +/-5V is 10): 1.5; Vio (25C)(Max)(mV): 4; Vn at 1kHz(Typ)(nV/rtHz): 33; DatasheetVersion: SLVS568C; PackageVersion: 4073253-5/K, 03/2006; PackageReference: DBV6; PackageDescription: 6-Pin Plastic Small Outline, Body 1.6 x 2.9 mm, Pitch 0.95 mm; Supplier 1: Digi-Key; Supplier Part Number 1: TLV341IDBVRG4-ND; Supplier 2: Mouser; Supplier Part Number 2: 595-TLV341IDBVRG4; Eco-Plan: Green (RoHS & no Sb/Br); Mounting Technology: Surface Mount; Code_JEDEC: MO-178; ComponentLink1Description: Manufacturer URL; ComponentLink1URL: http://www.ti.com/; ComponentLink2Description: Datasheet; ComponentLink2URL: http://www.ti.com/lit/ds/symlink/tlv341.pdf; ComponentLink3Description: Package Specification; ComponentLink3URL: http://www.ti.com/litv/pdf/mpds026h
footprint TI-DBV6_N (SOT23, 6-Leads, Body 2.90x1.60mm, Pitch 0.95mm, IPC Medium Density)
footprint TI-DBV6_L (SOT23, 6-Leads, Body 2.90x1.60mm, Pitch 0.95mm, IPC High Density)
footprint TI-DBV6_M (SOT23, 6-Leads, Body 2.90x1.60mm, Pitch 0.95mm, IPC Low Density)
pins: 1 IN+ (in), 2 GND (power), 3 IN- (in), 4 OUT (out), 5 ~{SHDN} (in), 6 V+ (power)

## TLV341IDBVT
designator U?
Low-Voltage, Rail-To-Rail Output CMOS Operational Amplifier with Shutdown, 1.5 to 5.5 V, -40 to 125 degC, 6-pin SOT23 (DBV6), Green (RoHS & no Sb/Br); Manufacturer: Texas Instruments; PartNumber: TLV341IDBVT; CMRR(Min)(dB): 50; GBW(Typ)(MHz): 2.2; IIB(Max)(pA): 3000; Iq per channel(Max)(mA): 0.15; Number of Channels: 1; Offset Drift(Typ)(uV/C): 1.9; Rating: Catalog; Slew Rate(Typ)(V/us): 0.9; Sub Family: General Purpose Amplifier, Low Power Amp (<=500uA), Low Supply Voltage Amplifier (<=2.7V); Total Supply Voltage(Max)(+5V is 5, +/-5V is 10): 5.5; Total Supply Voltage(Min)(+5V is 5, +/-5V is 10): 1.5; Vio (25C)(Max)(mV): 4; Vn at 1kHz(Typ)(nV/rtHz): 33; DatasheetVersion: SLVS568C; PackageVersion: 4073253-5/K, 03/2006; PackageReference: DBV6; PackageDescription: 6-Pin Plastic Small Outline, Body 1.6 x 2.9 mm, Pitch 0.95 mm; Supplier 1: Digi-Key; Supplier Part Number 1: TLV341IDBVT-ND; Supplier 2: Mouser; Supplier Part Number 2: 595-TLV341IDBVT; Eco-Plan: Green (RoHS & no Sb/Br); Mounting Technology: Surface Mount; Code_JEDEC: MO-178; ComponentLink1Description: Manufacturer URL; ComponentLink1URL: http://www.ti.com/; ComponentLink2Description: Datasheet; ComponentLink2URL: http://www.ti.com/lit/ds/symlink/tlv341.pdf; ComponentLink3Description: Package Specification; ComponentLink3URL: http://www.ti.com/litv/pdf/mpds026h
footprint TI-DBV6_N (SOT23, 6-Leads, Body 2.90x1.60mm, Pitch 0.95mm, IPC Medium Density)
footprint TI-DBV6_L (SOT23, 6-Leads, Body 2.90x1.60mm, Pitch 0.95mm, IPC High Density)
footprint TI-DBV6_M (SOT23, 6-Leads, Body 2.90x1.60mm, Pitch 0.95mm, IPC Low Density)
pins: 1 IN+ (in), 2 GND (power), 3 IN- (in), 4 OUT (out), 5 ~{SHDN} (in), 6 V+ (power)

## TLV341IDBVTE4
designator U?
Low-Voltage, Rail-To-Rail Output CMOS Operational Amplifier with Shutdown, 1.5 to 5.5 V, -40 to 125 degC, 6-pin SOT23 (DBV6), Green (RoHS & no Sb/Br); Manufacturer: Texas Instruments; PartNumber: TLV341IDBVTE4; CMRR(Min)(dB): 50; GBW(Typ)(MHz): 2.2; IIB(Max)(pA): 3000; Iq per channel(Max)(mA): 0.15; Number of Channels: 1; Offset Drift(Typ)(uV/C): 1.9; Rating: Catalog; Slew Rate(Typ)(V/us): 0.9; Sub Family: General Purpose Amplifier, Low Power Amp (<=500uA), Low Supply Voltage Amplifier (<=2.7V); Total Supply Voltage(Max)(+5V is 5, +/-5V is 10): 5.5; Total Supply Voltage(Min)(+5V is 5, +/-5V is 10): 1.5; Vio (25C)(Max)(mV): 4; Vn at 1kHz(Typ)(nV/rtHz): 33; DatasheetVersion: SLVS568C; PackageVersion: 4073253-5/K, 03/2006; PackageReference: DBV6; PackageDescription: 6-Pin Plastic Small Outline, Body 1.6 x 2.9 mm, Pitch 0.95 mm; Supplier 1: Digi-Key; Supplier Part Number 1: TLV341IDBVTE4-ND; Supplier 2: Mouser; Supplier Part Number 2: 595-TLV341IDBVTE4; Eco-Plan: Green (RoHS & no Sb/Br); Mounting Technology: Surface Mount; Code_JEDEC: MO-178; ComponentLink1Description: Manufacturer URL; ComponentLink1URL: http://www.ti.com/; ComponentLink2Description: Datasheet; ComponentLink2URL: http://www.ti.com/lit/ds/symlink/tlv341.pdf; ComponentLink3Description: Package Specification; ComponentLink3URL: http://www.ti.com/litv/pdf/mpds026h
footprint TI-DBV6_N (SOT23, 6-Leads, Body 2.90x1.60mm, Pitch 0.95mm, IPC Medium Density)
footprint TI-DBV6_L (SOT23, 6-Leads, Body 2.90x1.60mm, Pitch 0.95mm, IPC High Density)
footprint TI-DBV6_M (SOT23, 6-Leads, Body 2.90x1.60mm, Pitch 0.95mm, IPC Low Density)
pins: 1 IN+ (in), 2 GND (power), 3 IN- (in), 4 OUT (out), 5 ~{SHDN} (in), 6 V+ (power)

## TLV341IDBVTG4
designator U?
Low-Voltage, Rail-To-Rail Output CMOS Operational Amplifier with Shutdown, 1.5 to 5.5 V, -40 to 125 degC, 6-pin SOT23 (DBV6), Green (RoHS & no Sb/Br); Manufacturer: Texas Instruments; PartNumber: TLV341IDBVTG4; CMRR(Min)(dB): 50; GBW(Typ)(MHz): 2.2; IIB(Max)(pA): 3000; Iq per channel(Max)(mA): 0.15; Number of Channels: 1; Offset Drift(Typ)(uV/C): 1.9; Rating: Catalog; Slew Rate(Typ)(V/us): 0.9; Sub Family: General Purpose Amplifier, Low Power Amp (<=500uA), Low Supply Voltage Amplifier (<=2.7V); Total Supply Voltage(Max)(+5V is 5, +/-5V is 10): 5.5; Total Supply Voltage(Min)(+5V is 5, +/-5V is 10): 1.5; Vio (25C)(Max)(mV): 4; Vn at 1kHz(Typ)(nV/rtHz): 33; DatasheetVersion: SLVS568C; PackageVersion: 4073253-5/K, 03/2006; PackageReference: DBV6; PackageDescription: 6-Pin Plastic Small Outline, Body 1.6 x 2.9 mm, Pitch 0.95 mm; Supplier 1: Digi-Key; Supplier Part Number 1: TLV341IDBVTG4-ND; Supplier 2: Mouser; Supplier Part Number 2: 595-TLV341IDBVTG4; Eco-Plan: Green (RoHS & no Sb/Br); Mounting Technology: Surface Mount; Code_JEDEC: MO-178; ComponentLink1Description: Manufacturer URL; ComponentLink1URL: http://www.ti.com/; ComponentLink2Description: Datasheet; ComponentLink2URL: http://www.ti.com/lit/ds/symlink/tlv341.pdf; ComponentLink3Description: Package Specification; ComponentLink3URL: http://www.ti.com/litv/pdf/mpds026h
footprint TI-DBV6_N (SOT23, 6-Leads, Body 2.90x1.60mm, Pitch 0.95mm, IPC Medium Density)
footprint TI-DBV6_L (SOT23, 6-Leads, Body 2.90x1.60mm, Pitch 0.95mm, IPC High Density)
footprint TI-DBV6_M (SOT23, 6-Leads, Body 2.90x1.60mm, Pitch 0.95mm, IPC Low Density)
pins: 1 IN+ (in), 2 GND (power), 3 IN- (in), 4 OUT (out), 5 ~{SHDN} (in), 6 V+ (power)

## TLV341IDCKR
designator U?
Low-Voltage, Rail-To-Rail Output CMOS Operational Amplifier with Shutdown, 1.5 to 5.5 V, -40 to 125 degC, 6-pin SOT23 (DCK6), Green (RoHS & no Sb/Br); Manufacturer: Texas Instruments; PartNumber: TLV341IDCKR; CMRR(Min)(dB): 50; GBW(Typ)(MHz): 2.2; IIB(Max)(pA): 3000; Iq per channel(Max)(mA): 0.15; Number of Channels: 1; Offset Drift(Typ)(uV/C): 1.9; Rating: Catalog; Slew Rate(Typ)(V/us): 0.9; Sub Family: General Purpose Amplifier, Low Power Amp (<=500uA), Low Supply Voltage Amplifier (<=2.7V); Total Supply Voltage(Max)(+5V is 5, +/-5V is 10): 5.5; Total Supply Voltage(Min)(+5V is 5, +/-5V is 10): 1.5; Vio (25C)(Max)(mV): 4; Vn at 1kHz(Typ)(nV/rtHz): 33; DatasheetVersion: SLVS568C; PackageVersion: 4093553-4/G, 01/2007; PackageReference: DCK6; PackageDescription: 6-Pin Plastic Small Outline, Body 2 x 1.25 mm, Pitch 0.65 mm; Supplier 1: Digi-Key; Supplier Part Number 1: 296-17683-2-ND; Supplier 2: Digi-Key; Supplier Part Number 2: 296-17683-1-ND; Supplier 3: Digi-Key; Supplier Part Number 3: 296-17683-6-ND; Supplier 4: Newark; Supplier Part Number 4: 73J8358; Supplier 5: Mouser; Supplier Part Number 5: 595-TLV341IDCKR; Eco-Plan: Green (RoHS & no Sb/Br); Mounting Technology: Surface Mount; Code_JEDEC: MO-203; ComponentLink1Description: Manufacturer URL; ComponentLink1URL: http://www.ti.com/; ComponentLink2Description: Datasheet; ComponentLink2URL: http://www.ti.com/lit/ds/symlink/tlv341.pdf; ComponentLink3Description: Package Specification; ComponentLink3URL: http://www.ti.com/litv/pdf/mpds114c
footprint TI-DCK6_V (SOT23, 6-Leads, Body 2x1.25mm, Pitch 0.65mm)
pins: 1 IN+ (in), 2 GND (power), 3 IN- (in), 4 OUT (out), 5 ~{SHDN} (in), 6 V+ (power)